# EAGLE library part BUTTON (library DB9_2_JST_GH)
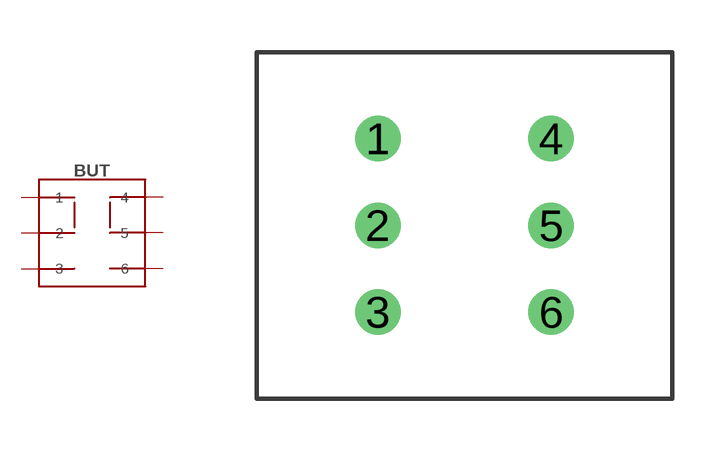
[diagram p0: symbol with the pads of PBM-0112; footprint PBM-0112]

Designator prefix BUT

## BUTTON (CHIPDIP: https://www.chipdip.ru/product/b170k)  [PBM-0112]
1  1
2  2
3  3
4  4
5  5
6  6

## Footprint PBM-0112 (pad centres in mm)
drill 0.8: 1 -2.5,2.5; 2 -2.5,0; 3 -2.5,-2.5; 4 2.5,2.5; 5 2.5,0; 6 2.5,-2.5